# Altium footprint library 7.3x7.3.PcbLib: 1 footprints
Each footprint in its own frame and in the unit in brackets; x right, y up, seen from the top. Pads: shape width x height; smd on the part's side, far side on the other; paste and mask are expansions set on the pad; w line width, h text height; cw(c..) or ccw(c..) is an arc to the next point about the centre after c.
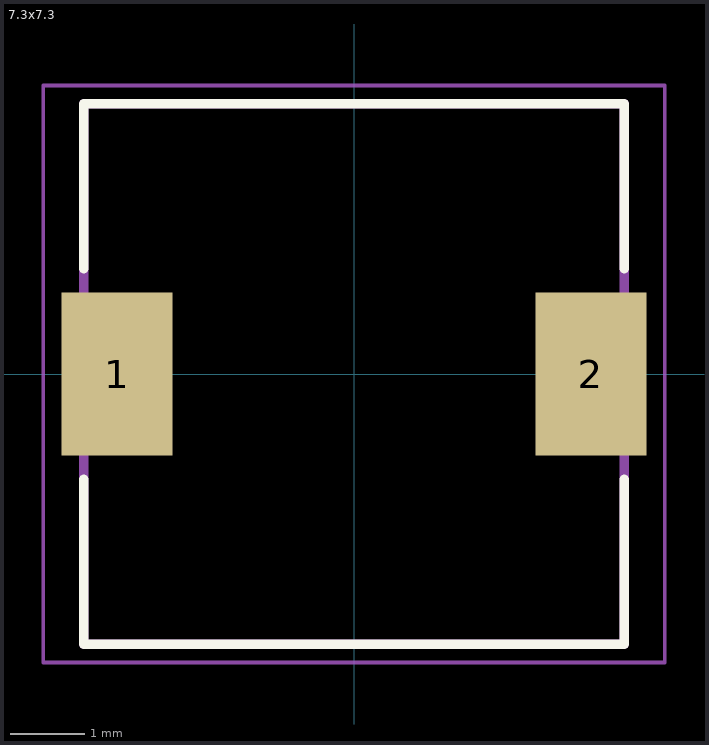
[diagram p0: the footprint, top view; thin cyan lines are the x and y axes]

## 7.3x7.3 [mm]
height 4.5
pads (2):
  rect 1.5x2.2 smd: 1(-3.2,0) 2(3.2,0)
Top Overlay:
  lines w0.127: -3.65,-1.42 -3.65,-3.65 3.65,-3.65 3.65,-1.42 ; -3.65,1.42 -3.65,3.65 3.65,3.65 3.65,1.42
Mechanical 13:
  lines w0.127: -3.65,-3.65 3.65,-3.65 3.65,3.65 -3.65,3.65 -3.65,-3.65
Mechanical 15:
  lines w0.05: -4.2,-3.9 4.2,-3.9 4.2,3.9 -4.2,3.9 -4.2,-3.9
3D body "step_temp.STEP": height 3.5, standoff 0, extent -3.65,-3.65 3.65,3.65